# EAGLE library part SN74LVC2G241 (library IC & Transistor)
DUAL BUFFER/DRIVER WITH 3-STATE OUTPUTS
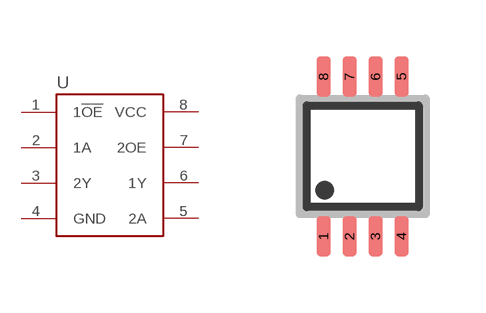
[diagram p16: symbol with the pads of TSSOP-8; footprint TSSOP-8]

Designator prefix U

## SN74LVC2G241 (CYTRON-PC: S-IC-74LVC2G241-SSOP8; DESC: S Dual 3-state buffer 74LVC2G241 SSOP-8; MF: Texas Instruments; MPN: SN74LVC2G241DCTR)  [TSSOP-8]
1  1!OE
2  1A
3  2Y
4  GND
5  2A
6  1Y
7  2OE
8  VCC

## Footprint TSSOP-8 (pad centres in mm)
TSSPOP8
smd 0.35 x 1: 1 -0.975,-2; 2 -0.325,-2; 3 0.325,-2; 4 0.975,-2; 5 0.975,2; 6 0.325,2; 7 -0.325,2; 8 -0.975,2